# EAGLE library part LSM6DSV16BXTR (library LSM6DSV16BXTR)
6-axis IMU (inertial measurement unit) with embedded sensor fusion, AI, Qvar and hearable features for TWS Source: Datasheet <https://www.st.com/resource/en/datasheet/lsm6dsv16bx.pdf>
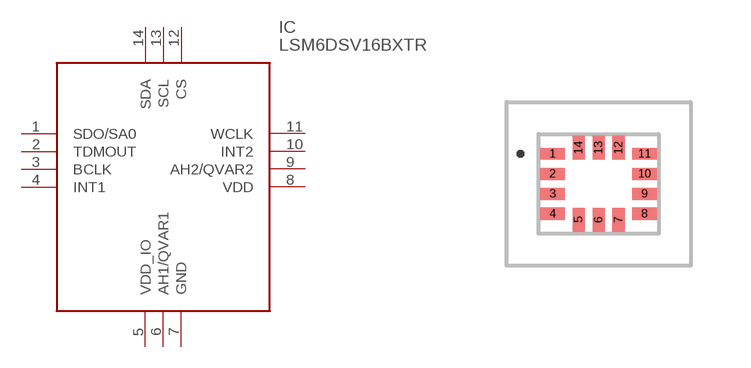
[diagram p0: symbol with the pads of LSM6DSV16BXTR; footprint LSM6DSV16BXTR]

Designator prefix IC

## LSM6DSV16BXTR (Arrow_Part_Number: LSM6DSV16BXTR; Arrow_Price-Stock: https://www.arrow.com/en/products/lsm6dsv16bxtr/stmicroelectronics?utm_currency=USD&region=nac; Description: 6-axis IMU (inertial measurement unit) with embedded sensor fusion, AI, Qvar and hearable features for TWS; Height: 0.74mm; Manufacturer_Name: STMicroelectronics; Manufacturer_Part_Number: LSM6DSV16BXTR; Mouser_Part_Number: 511-LSM6DSV16BXTR; Mouser_Price-Stock: https://www.mouser.co.uk/ProductDetail/STMicroelectronics/LSM6DSV16BXTR?qs=vvQtp7zwQdMXKB4RqH7GHQ%3D%3D)  [LSM6DSV16BXTR]
1  SDO/SA0
2  TDMOUT
3  BCLK
4  INT1
5  VDD_IO
6  AH1/QVAR1
7  GND
8  VDD
9  AH2/QVAR2
10  INT2
11  WCLK
12  CS
13  SCL
14  SDA

## Footprint LSM6DSV16BXTR (pad centres in mm)
LGA-14L 2.5 x 3.0 x 0.74 mm XDM)
smd 0.6 x 0.3: 1 -1.15,0.75; 2 -1.15,0.25; 3 -1.15,-0.25; 4 -1.15,-0.75; 8 1.15,-0.75; 9 1.15,-0.25; 10 1.15,0.25; 11 1.15,0.75
smd 0.3 x 0.6: 5 -0.5,-0.9; 6 0,-0.9; 7 0.5,-0.9; 12 0.5,0.9; 13 0,0.9; 14 -0.5,0.9